# Altium integrated library MC34063_BOOST_CONV.IntLib: 1 symbol
Pins are listed as number, name and electrical type; pins without a type are passive.

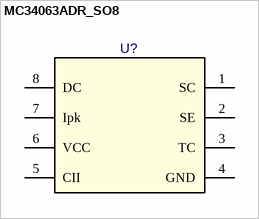
[diagram p0: symbol MC34063ADR_SO8]

## MC34063ADR_SO8
designator U?, comment MC34063ADR  (value not drawn)
Buck, Boost Switching Regulator IC Positive or Negative Adjustable 1.25V 1 Output 1.5A 8 SOIC (3.90mm Width); Package: SO8; EDM-PN: *; Text2: *; Text1: *; Value: MC34063ADR; DCE Part No: *; Part Number: MC34063ADR; Supplier 1: Digi-Key; Supplier Part Number 1: 296-17765-1-ND
footprint MC34063ADR (SOIC, 8-Leads, Body 5.0x4.0mm (max), Pitch 1.27mm, IPC Medium Density)
pins: 1 SC, 2 SE, 3 TC, 4 GND, 5 CII (power), 6 VCC (power), 7 Ipk (power), 8 DC (power)